# EAGLE library part MAX3420E (library m_ic-comm)
USB Peripheral Controller with SPI Interface General Description The MAX3420E contains the digital logic and analog circuitry necessary to implement a full-speed USB peripheral compliant to USB specification rev 2.0. A built-in full-speed transceiver features ±15kV ESD pro- tection and programmable USB connect and discon- nect. An internal serial-interface engine (SIE) handles low-level USB protocol details such as error checking and bus retries. The MAX3420E operates using a regis- ter set accessed by an SPITM interface that operates up to 26MHz. Any SPI master (microprocessor, ASIC, DSP, etc.) can add USB functionality using the simple 3- or 4-wire SPI interface. Internal level translators allow the SPI interface to run at a system voltage between 1.71V and 3.6V. USB timed operations are done inside the MAX3420E with inter- rupts provided at completion so an SPI master does not need timers to meet USB timing requirements. The MAX3420E includes four general-purpose inputs and outputs so any microprocessor that uses I/O pins to implement the SPI interface can reclaim the I/O pins and gain additional ones. The MAX3420E operates over the extended -40°C to +85°C temperature range and is available in a 32-pin LQFP package (7mm x 7mm) and a space-saving 24- pin TQFN package (4mm x 4mm). Microprocessor-Independent USB Solution Complies with USB Specification Revision 2.0 (Full-Speed Operation) Integrated Full-Speed USB Transceiver Firmware/Hardware Control of an Internal D+ Pullup Resistor Programmable 3- or 4-Wire 26MHz SPI Interface Level Translators and VL Input Allow Independent System Interface Voltage Internal Comparator Detects VBUS for Self-Powered Applications ESD Protection on D+, D-, and VBCOMP Interrupt Output Pin (Level or Programmable Edge) Allows Polled or Interrupt-Driven SPI Interface Intelligent USB Serial-Interface Engine (SIE) Automatically Handles USB Flow Control and Double Buffering Handles Low-Level USB Signaling Details Contains Timers for USB Time-Sensitive Operations So SPI Master Does Not Need to Time Events Built-In Endpoint FIFOs EP0: CONTROL (64 Bytes) EP1: OUT, Bulk or Interrupt, 2 x 64 Bytes (Double-Buffered) EP2: IN, Bulk or Interrupt, 2 x 64 Bytes (Double-Buffered) EP3: IN, Bulk or Interrupt (64 Bytes) Double-Buffered Data Endpoints Increase Throughput by Allowing the SPI Master to Transfer Data Concurrently with USB Transfers Over the Same Endpoint SETUP Data Has Its Own 8-Byte FIFO, Simplifying Firmware Four General-Purpose Inputs and Four General- Purpose Outputs Space-Saving LQFP and TQFN Packages
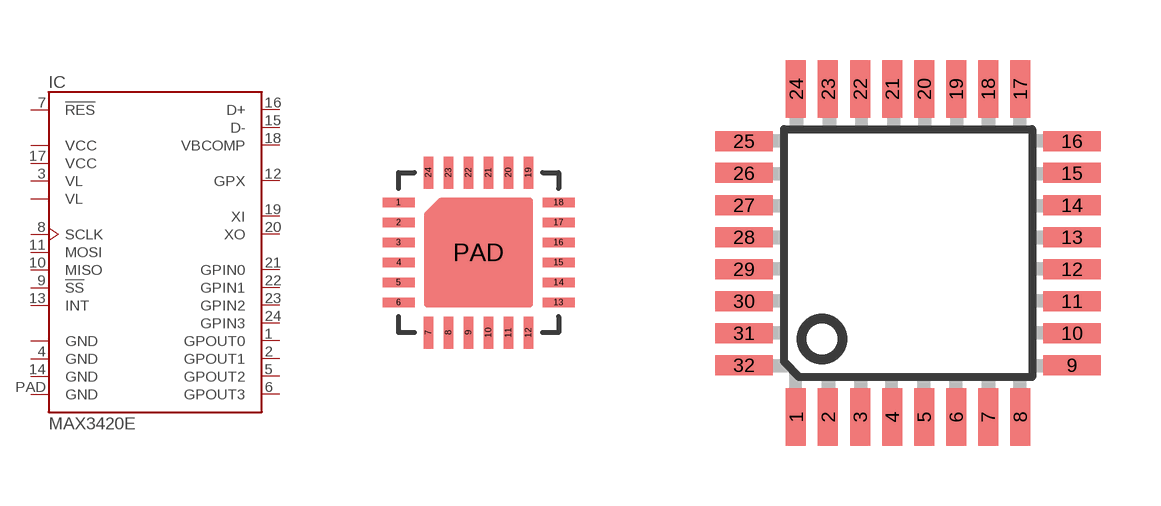
[diagram p0: symbol with the pads of TQFN24; footprints TQFN24, LQFP-32]

Designator prefix IC

## MAX3420EETG (PARTNUM: MAX3420EETG)  [TQFN24]
1  GPOUT0  out
2  GPOUT1  out
3  VL  pas
4  GND  pwr
5  GPOUT2  out
6  GPOUT3  out
7  !RES  in
8  SCLK  in
9  !SS  in
10  MISO  out
11  MOSI  in
12  GPX
13  INT  out
14  GND  pwr
15  D-  pas
16  D+  pas
17  VCC  pwr
18  VBCOMP  pas
19  XI  pas
20  XO  pas
21  GPIN0  in
22  GPIN1  in
23  GPIN2  in
24  GPIN3  in
PAD  GND  pwr

## MAX3420EECJ (PARTNUM: MAX3420EECJ)  [LQFP-32]
1  GPOUT0  out
2  GPOUT1  out
3  VL  pas
4  VL  pas
5  GND  pwr
6  GND  pwr
7  GPOUT2  out
8  GPOUT3  out
10  !RES  in
11  SCLK  in
12  !SS  in
13  MISO  out
14  MOSI  in
15  GPX
17  INT  out
18  GND  pwr
19  GND  pwr
20  D-  pas
21  D+  pas
22  VCC  pwr
23  VCC  pwr
24  VBCOMP  pas
26  XI  pas
27  XO  pas
29  GPIN0  in
30  GPIN1  in
31  GPIN2  in
32  GPIN3  in

## Footprint TQFN24 (pad centres in mm)
28 Thin QFN From Maxim Pkg. Code T2444-4
smd 0.8 x 0.23: 1 -2,1.25; 2 -2,0.75; 3 -2,0.25; 4 -2,-0.25; 5 -2,-0.75; 6 -2,-1.25; 13 2,-1.25; 14 2,-0.75; 15 2,-0.25; 16 2,0.25; 17 2,0.75; 18 2,1.25
smd 0.23 x 0.8: 7 -1.25,-2; 8 -0.75,-2; 9 -0.25,-2; 10 0.25,-2; 11 0.75,-2; 12 1.25,-2; 19 1.25,2; 20 0.75,2; 21 0.25,2; 22 -0.25,2; 23 -0.75,2; 24 -1.25,2
smd 1 x 1: PAD 0,0

## Footprint LQFP-32 (pad centres in mm)
Maxim LQFP From Maxim Package Land Pattern document 90-0111 rev. B Conforms to IPC7351A
smd 0.5 x 1.45: 1 -2.7,-4; 2 -1.9,-4; 3 -1.1,-4; 4 -0.3,-4; 5 0.5,-4; 6 1.3,-4; 7 2.1,-4; 8 2.9,-4; 17 2.9,4.2; 18 2.1,4.2; 19 1.3,4.2; 20 0.5,4.2; 21 -0.3,4.2; 22 -1.1,4.2; 23 -1.9,4.2; 24 -2.7,4.2
smd 1.45 x 0.5: 9 4.2,-2.7; 10 4.2,-1.9; 11 4.2,-1.1; 12 4.2,-0.3; 13 4.2,0.5; 14 4.2,1.3; 15 4.2,2.1; 16 4.2,2.9; 25 -4,2.9; 26 -4,2.1; 27 -4,1.3; 28 -4,0.5; 29 -4,-0.3; 30 -4,-1.1; 31 -4,-1.9; 32 -4,-2.7